# EAGLE library part 6N138S (library 6N138s)
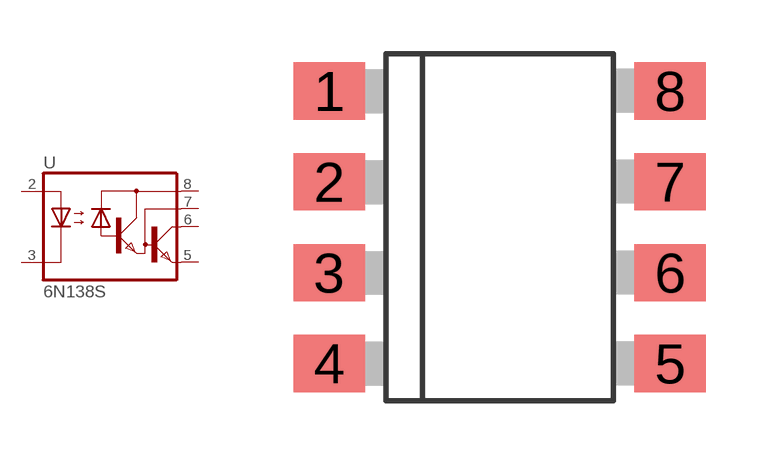
[diagram p0: symbol with the pads of 6N138S; footprint 6N138S]

Designator prefix -

## 6N138S  [6N138S]
2  A  pas
3  C  pas
5  GND  pas
6  VO  pas
7  VB  pas
8  VCC  pas

## Footprint 6N138S (pad centres in mm)
smd 2 x 1.6: 1 -4.44,3.79; 2 -4.44,1.25; 3 -4.44,-1.29; 4 -4.44,-3.83; 5 5.1,-3.83; 6 5.1,-1.29; 7 5.1,1.25; 8 5.1,3.79